# EAGLE library part SPBT2632C2A (library STMicroelectrionics)
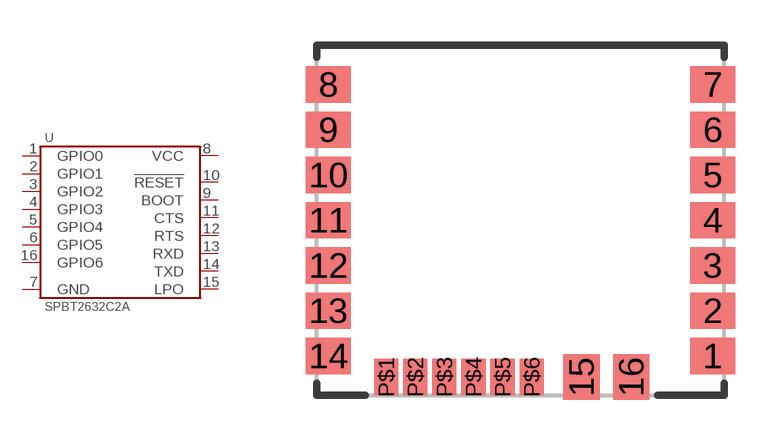
[diagram p3: symbol with the pads of SPBT2632C2A; footprint SPBT2632C2A]

Designator prefix U

## SPBT2632C2A  [SPBT2632C2A]
1  GPIO0
2  GPIO1
3  GPIO2
4  GPIO3
5  GPIO4
6  GPIO5
7  GND
8  VCC
9  BOOT
10  !RESET
11  CTS
12  RTS
13  RXD
14  TXD
15  LPO
16  GPIO6

## Footprint SPBT2632C2A (pad centres in mm)
smd 1.5 x 1.2: 1 6.37,-4.5; 2 6.37,-3; 3 6.37,-1.5; 4 6.37,0; 5 6.37,1.5; 6 6.37,3; 7 6.37,4.5; 8 -6.37,4.5; 9 -6.37,3; 10 -6.37,1.5; 11 -6.37,0; 12 -6.37,-1.5; 13 -6.37,-3; 14 -6.37,-4.5
smd 1.2 x 1.5: 15 2.02,-5.2; 16 3.67,-5.2
smd 0.8 x 1.2: P$1 -4.455,-5.2; P$2 -3.49,-5.2; P$3 -2.525,-5.2; P$4 -1.56,-5.2; P$5 -0.595,-5.2; P$6 0.37,-5.2